# Altium footprint library PcbLib1.PcbLib: 8 footprints
Each footprint in its own frame and in the unit in brackets; x right, y up, seen from the top. Pads: shape width x height; smd on the part's side, far side on the other; paste and mask are expansions set on the pad; w line width, h text height; cw(c..) or ccw(c..) is an arc to the next point about the centre after c.
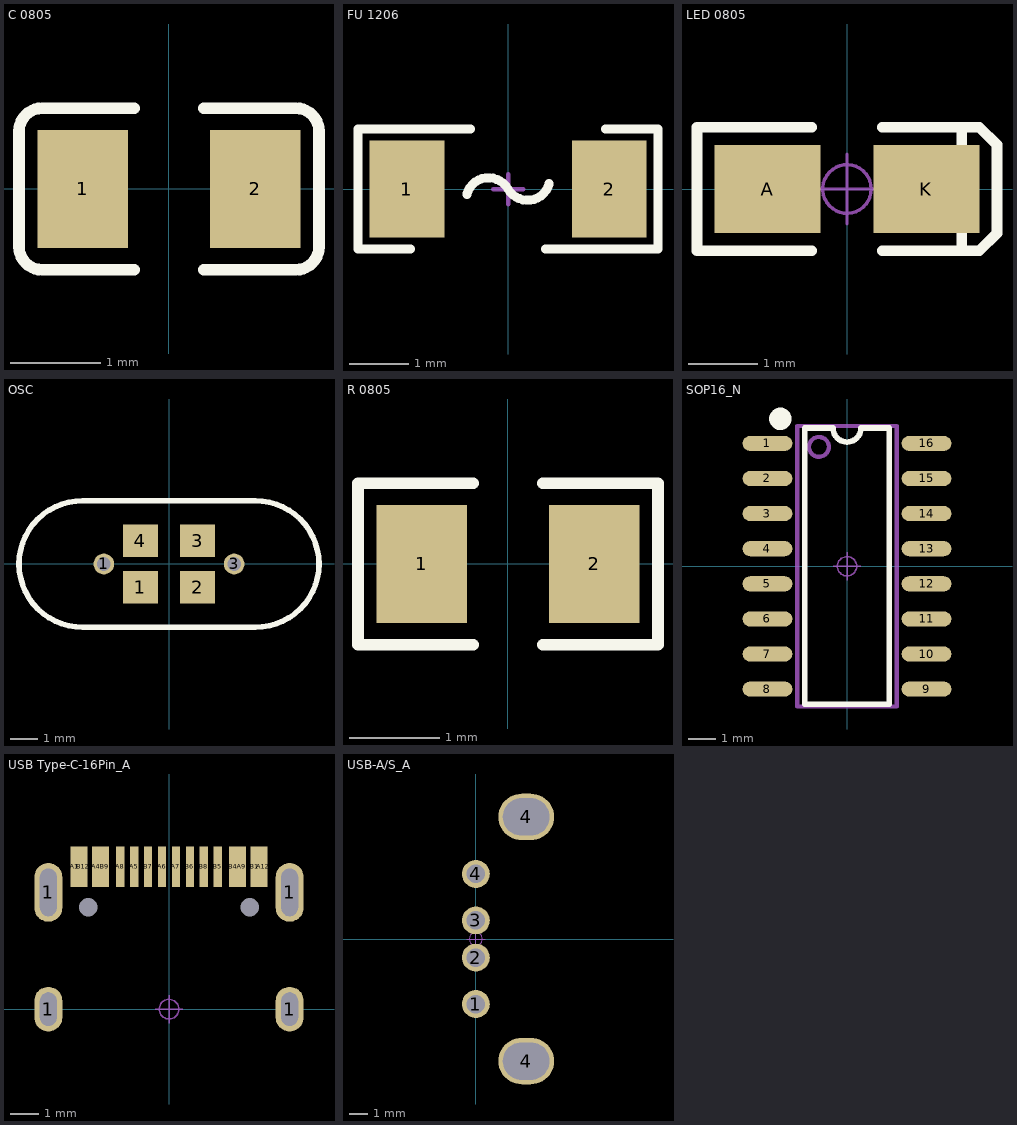
[diagram p0: the footprints below, top view; thin cyan lines are the x and y axes]

## C 0805 [mm] "贴片带丝印"
height 1.1
pads (2):
  rect 1x1.3 smd: 1(-0.95,0) 2(0.95,0)
Top Overlay:
  lines w0.127: -0.381,-0.889 -1.397,-0.889 cw(c-1.397,-0.635) -1.651,-0.635 -1.651,0.635 cw(c-1.397,0.635) -1.397,0.889 -0.381,0.889 ; 0.381,-0.889 1.397,-0.889 ccw(c1.397,-0.635) 1.651,-0.635 1.651,0.635 ccw(c1.397,0.635) 1.397,0.889 0.381,0.889
3D body "C 0805.STEP": height 0.51, standoff -0.01, extent -1,-0.61 1,0.61

## FU 1206 [mil] "贴片保险丝"
pads (2):
  rect 50x65 smd: 1(-67.5,0) 2(67.5,0)
Top Overlay:
  lines w6: -65,-40 -100,-40 -100,40 -25,40 ; -27.48,-3.62 cw(c-12.99,-7.5) 0,0 ccw(c12.99,7.5) 27.48,3.62 ; 25,-40 100,-40 100,40 65,40
Mechanical 15:
  lines w3: -10,0 10,0 ; 0,-10 0,10
3D body "FU 01206.STEP": height 34.25, standoff 0, extent -62.99,-31.89 62.99,31.89

## LED 0805 [mil]
pads (2):
  rect 60x50 smd: A(-45,0) K(45,0)
Top Overlay:
  lines w6: -20,-35 -85,-35 -85,35 -20,35 ; 20,-35 75,-35 85,-25 85,25 75,35 20,35 ; 65,-35 65,-25 ; 65,25 65,35
Mechanical 15:
  circle w1.97: c0,0 r13.78
  lines w1.97: -19.68,0 19.68,0 ; 0,-19.68 0,19.68
3D body "LED 0805-G.STEP": height 26.33, standoff -0.16, extent -39.37,-24.65 39.37,24.65
3D body "LED 0805玻璃罩.STEP": height 31.69, standoff 12.01, extent -29.49,-24.65 29.49,24.65

## OSC [mm]
pads (6):
  round 0.762 hole 0.508: 1(-2.4,0) 3(2.4,0)
  rect 1.3x1.2 smd: 1(-1.05,-0.85) 2(1.05,-0.85) 3(1.05,0.85) 4(-1.05,0.85)
Top Overlay:
  lines w0.203: -3.175,2.325 ccw(c-3.2,0) -3.173,-2.325 3.175,-2.325 ccw(c3.2,0) 3.173,2.325 -3.175,2.325
3D body "OSC 3225-4.STEP": height 0.7, standoff -0.02, extent -1.6,-1.25 1.6,1.25

## R 0805 [mm] "贴片带丝印"
height 1.1
pads (2):
  rect 1x1.3 smd: 1(-0.95,0) 2(0.95,0)
Top Overlay:
  lines w0.127: -0.381,-0.889 -1.651,-0.889 -1.651,0.889 -0.381,0.889 ; 0.381,-0.889 1.651,-0.889 1.651,0.889 0.381,0.889
3D body "R0805.STEP": height 0.55, standoff 0, extent -1,-0.63 1,0.63

## SOP16_N [mm] "10.3*6.2*1.8mm（长宽高）"
height 1.75
pads (16):
  oval 1.8x0.55 smd: 1(-2.877,4.445) 2(-2.877,3.175) 3(-2.877,1.905) 4(-2.877,0.635) 5(-2.877,-0.635) 6(-2.877,-1.905) 7(-2.877,-3.175) 8(-2.877,-4.445) 9(2.877,-4.445) 10(2.877,-3.175) 11(2.877,-1.905) 12(2.877,-0.635) 13(2.877,0.635) 14(2.877,1.905) 15(2.877,3.175) 16(2.877,4.445)
Top Overlay:
  circle w0.5: c-2.413,5.334 r0.155
  lines w0.2: -1.524,5 -1.524,-5 1.524,-5 1.524,5
  lines w0.203: -1.524,5 -0.508,5 ccw(c0,5) 0,4.492 ccw(c0,5) 0.508,5 1.524,5
Mechanical 13:
  circle w0.15: c-1.016,4.318 r0.359
  lines w0.15: -1.8,-5.08 1.8,-5.08 1.8,5.08 -1.8,5.08 -1.8,-5.08
Mechanical 15:
  circle w0.05: c0,0 r0.35
  lines w0.05: -0.5,0 0.5,0 ; 0,-0.5 0,0.5
3D body "SOP16.STEP": height 1.9, standoff 0, extent -3.003,-5 3.003,5

## USB Type-C-16Pin_A [mm]
pads (22):
  round 0 hole 0.65: 0(-2.89,3.65) 0(2.89,3.65)
  oval 1x1.6 hole 0.6 slot 1.2 at 90 deg: 1(-4.32,0) 1(4.32,0)
  oval 1x2.1 hole 0.6 slot 1.7 at 90 deg: 1(-4.32,4.18) 1(4.32,4.18)
  rect 0.3x1.45 smd: A1(-3.375,5.092) A4(-2.6,5.092) A5(-1.25,5.092) A6(-0.25,5.092) A7(0.25,5.092) A8(-1.75,5.092) A9(2.6,5.1) A12(3.375,5.1) B1(3.075,5.1) B4(2.3,5.1) B5(1.75,5.092) B6(0.75,5.092) B7(-0.75,5.092) B8(1.25,5.092) B9(-2.3,5.092) B12(-3.075,5.092)
Mechanical 15:
  circle w0.05: c0,0 r0.35
  lines w0.05: -0.5,0 0.5,0 ; 0,-0.5 0,0.5
3D body "USB Type-C_A.STEP": height 3.25, standoff -0.85, extent -4.47,-2.6 4.47,5.3

## USB-A/S_A [mm] "A型直插母头，"
height 7.01
pads (6):
  round 1.5 hole 1: 1(0,-3.5) 2(0,-1) 3(0,1) 4(0,3.5)
  oval 3x2.5 hole 2 slot 2.5 at 0 deg: 4(2.71,-6.57) 4(2.71,6.57)
Mechanical 15:
  circle w0.05: c0,0 r0.35
  lines w0.05: -0.5,0 0.5,0 ; 0,-0.5 0,0.5
3D body "USB A型 ?": height 6.8, standoff -4.31, extent -0.605,-7.342 13.7,7.342